# EAGLE library part NCV7729BPPR2G (library power)
IC DRIVER DUAL H-BRIDGE 8A 20PSOP tested: YES (fix_it_in_sw)
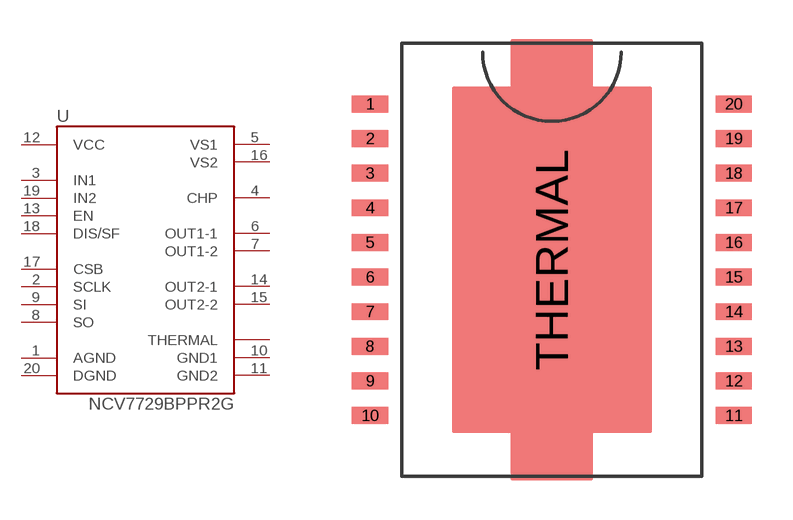
[diagram p0: symbol with the pads of PSOP-20; footprint PSOP-20]

Designator prefix U

## NCV7729BPPR2G  [PSOP-20]
1  AGND
2  SCLK
3  IN1
4  CHP
5  VS1
6  OUT1-1
7  OUT1-2
8  SO
9  SI
10  GND1
11  GND2
12  VCC
13  EN
14  OUT2-1
15  OUT2-2
16  VS2
17  CSB
18  DIS/SF
19  IN2
20  DGND
THERMAL  THERMAL

## Footprint PSOP-20 (pad centres in mm)
smd 1.33 x 0.62: 1 -6.665,5.715; 2 -6.665,4.445; 3 -6.665,3.175; 4 -6.665,1.905; 5 -6.665,0.635; 6 -6.665,-0.635; 7 -6.665,-1.905; 8 -6.665,-3.175; 9 -6.665,-4.445; 10 -6.665,-5.715; 11 6.665,-5.715; 12 6.665,-4.445; 13 6.665,-3.175; 14 6.665,-1.905; 15 6.665,-0.635; 16 6.665,0.635; 17 6.665,1.905; 18 6.665,3.175; 19 6.665,4.445; 20 6.665,5.715
smd 7.2 x 12.6: THERMAL 0,0